# Altium integrated library VXO7805-500-M.IntLib: 1 symbol
Pins are listed as number, name and electrical type; pins without a type are passive.

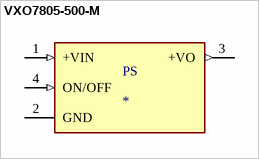
[diagram p0: symbol VXO7805-500-M]

## VXO7805-500-M
designator PS
500 mA Output Current, 4.75~36 Vdc Input, SMT, Non-Isolated, Dc-Dc Converter; MF: CUI Inc.; MP: VXO7805-500-M; Value: *; Price: None; SnapEDA_Link: https://www.snapeda.com/parts/VXO7805-500-M/CUI%20Inc./view-part/4703817/?ref=snap; Package: SMD-4; Availability: Unavailable
footprint CONV_VXO7805-500-M
pins: 1 +VIN (in), 2 GND (power), 3 +VO (out), 4 ON/OFF (in)